# EAGLE library part PB6149L (library nightcapaudio)
PB6149L Illuminated Tactile Switch
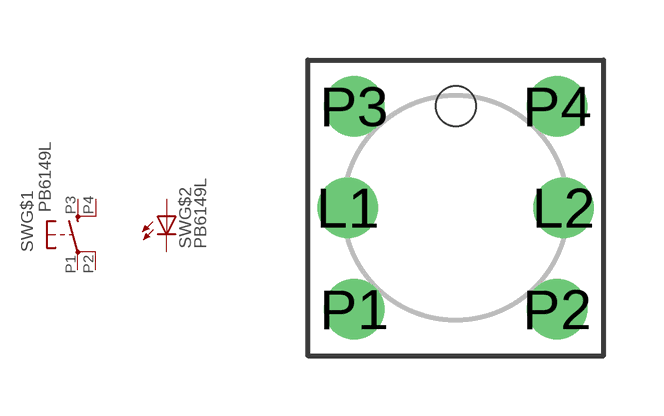
[diagram p0: symbol with the pads of PB6149L; footprint PB6149L]

Designator prefix SW; gates G$2=LED G$1=TS2

## PB6149L  [PB6149L]
L1  G$2:A  pas
L2  G$2:C  pas
P1  G$1:P  pas
P2  G$1:P1  pas
P3  G$1:S  pas
P4  G$1:S1  pas

## Footprint PB6149L (pad centres in mm)
drill 1: L1 -2.7,0; L2 2.7,0; P1 -2.54,-2.54; P2 2.54,-2.54; P3 -2.54,2.54; P4 2.54,2.54
hole 1 at 0,2.54